# Altium footprint library CMLE105T-1R5MS.PcbLib: 1 footprints
Each footprint in its own frame and in the unit in brackets; x right, y up, seen from the top. Pads: shape width x height; smd on the part's side, far side on the other; paste and mask are expansions set on the pad; w line width, h text height; cw(c..) or ccw(c..) is an arc to the next point about the centre after c.
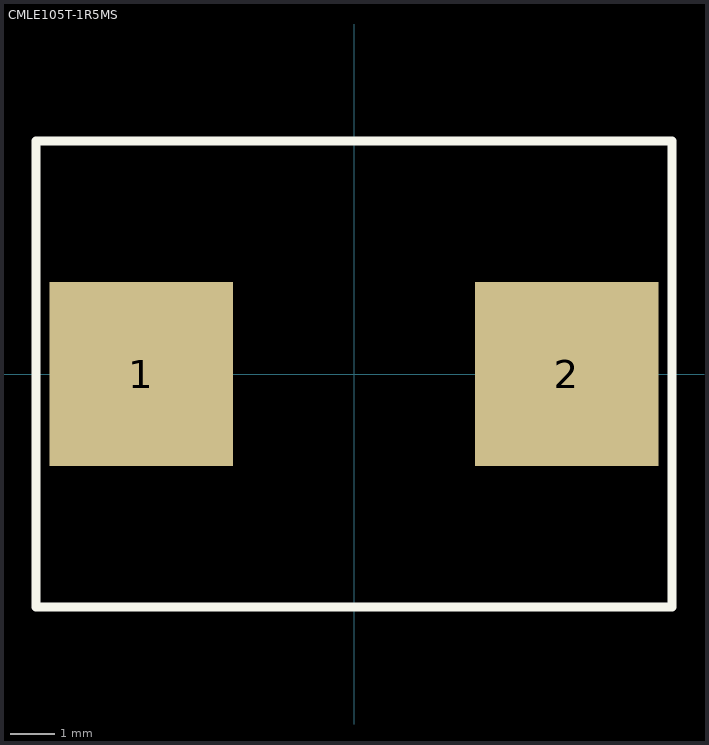
[diagram p0: the footprint, top view; thin cyan lines are the x and y axes]

## CMLE105T-1R5MS [mm]
height 0.95
pads (2):
  rect 4.1x4.1 smd: 1(-4.75,0) 2(4.75,0)
Top Overlay:
  lines w0.2: -7.1,-5.2 7.1,-5.2 7.1,5.2 -7.1,5.2 -7.1,-5.2
Top Assembly:
  lines w0.15: -7.1,-5.2 -7.1,5.2 7.1,5.2 7.1,-5.2 -7.1,-5.2
  text "'.Designator'" at -0.675,-0.375 h0.8
3D body "CMLE105T-1R5MS.stp": height 4.8, standoff 0, extent -5,-5 5,5